# Altium footprint library PA1616D.PcbLib: 1 footprints
Each footprint in its own frame and in the unit in brackets; x right, y up, seen from the top. Pads: shape width x height; smd on the part's side, far side on the other; paste and mask are expansions set on the pad; w line width, h text height; cw(c..) or ccw(c..) is an arc to the next point about the centre after c.
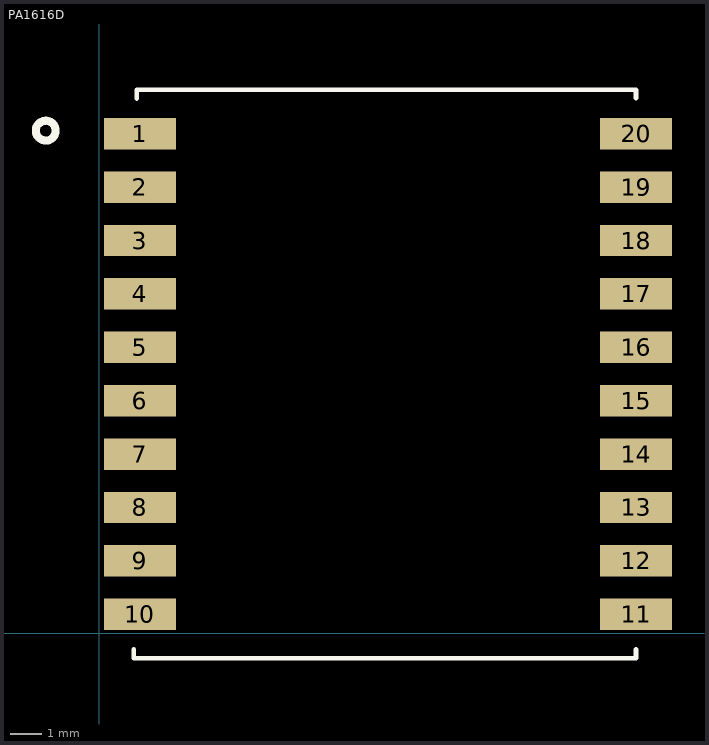
[diagram p0: the footprint, top view; thin cyan lines are the x and y axes]

## PA1616D [mm] "GPS IC"
height 6.7
pads (20):
  rect 2.3x1 smd: 1(1.3,15.9) 2(1.3,14.2) 3(1.3,12.5) 4(1.3,10.8) 5(1.3,9.1) 6(1.3,7.4) 7(1.3,5.7) 8(1.3,4) 9(1.3,2.3) 10(1.3,0.6) 11(17.1,0.6) 12(17.1,2.3) 13(17.1,4) 14(17.1,5.7) 15(17.1,7.4) 16(17.1,9.1) 17(17.1,10.8) 18(17.1,12.5) 19(17.1,14.2) 20(17.1,15.9)
Top Overlay:
  circle w0.254: c-1.7,16 r0.316
  lines w0.15: 1.1,-0.512 1.1,-0.8 17.1,-0.8 17.1,-0.527 ; 1.2,17.025 1.2,17.3 17.1,17.3 17.1,17.037